# Altium integrated library Magnetic.IntLib: 2 symbols
Pins are listed as number, name and electrical type; pins without a type are passive.

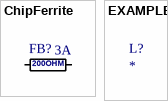
[diagram p0: symbols ChipFerrite to EXAMPLE]

## ChipFerrite
designator FB?  =Z@100MHz: 200OHM  iMax: 3A  (hidden comment: *)
Link: *; MfrPartNo: *; Name: *; Resistance: *; Package: *; Inductance: *
footprint 0805_Ferrite
pins: 1, 2

## EXAMPLE
designator L?
Link: *; MfrPartNo: *; Name: *; iMax: *; Resistance: *; Package: *; Inductance: *